# Altium footprint library PTN Connectors Footprint.PcbLib: 27 footprints (part 2 of 2)
Each footprint in its own frame and in the unit in brackets; x right, y up, seen from the top. Pads: shape width x height; smd on the part's side, far side on the other; paste and mask are expansions set on the pad; w line width, h text height; cw(c..) or ccw(c..) is an arc to the next point about the centre after c.
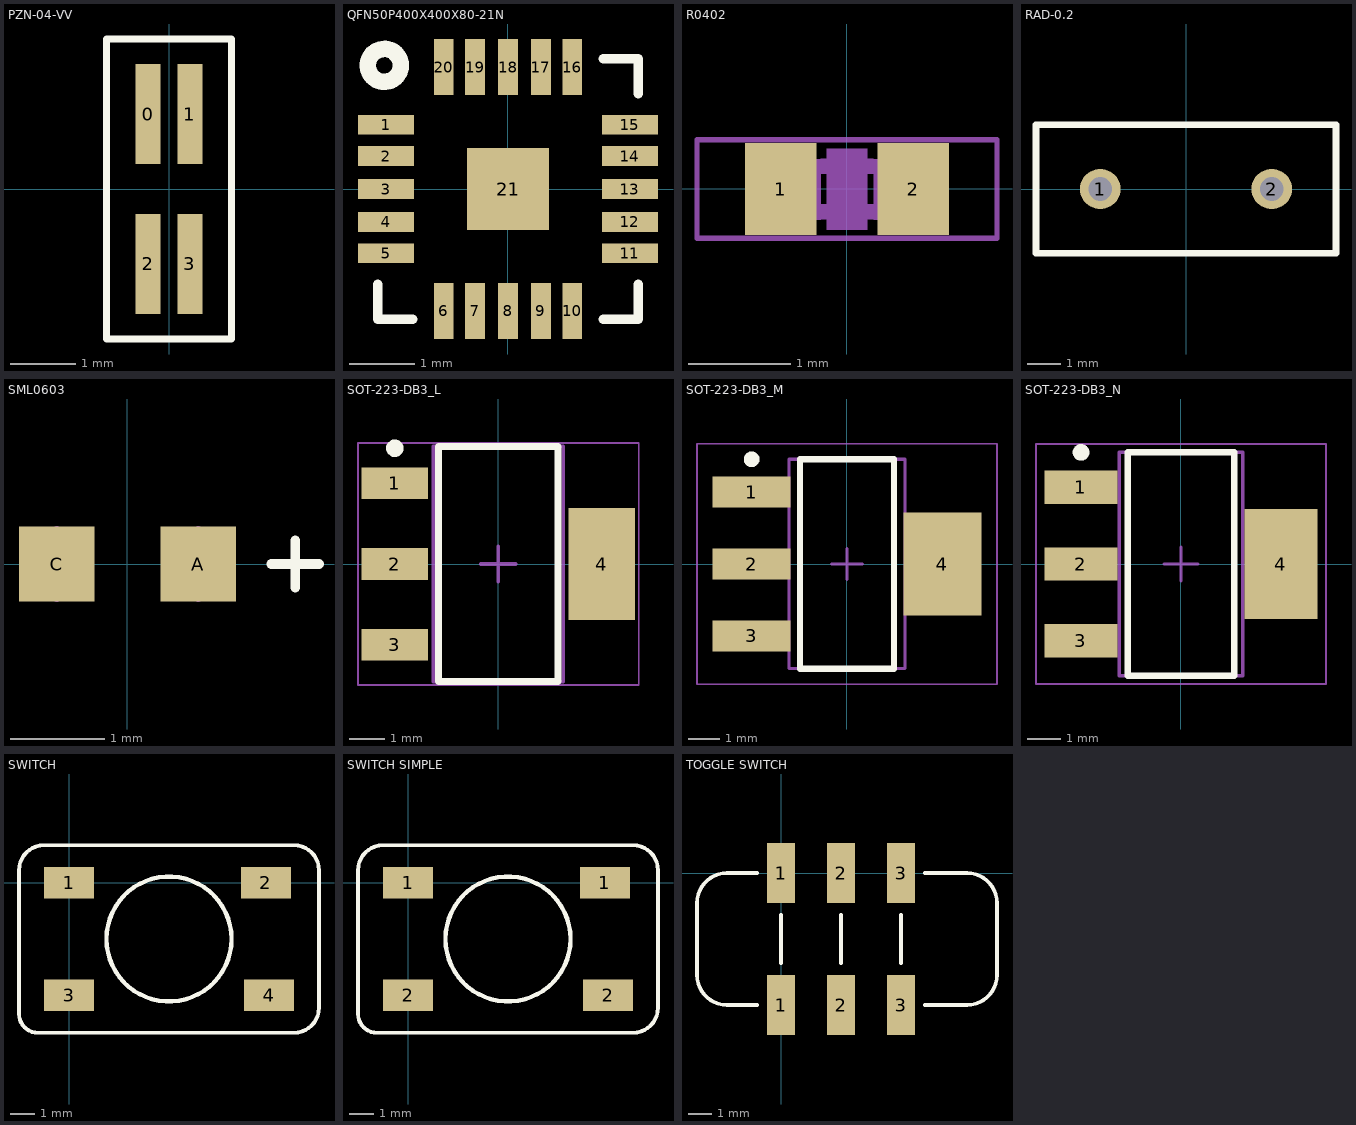
[diagram p1: the footprints below, top view; thin cyan lines are the x and y axes]

## PZN-04-VV [mil] "Omnetics Connector, PZN-04-VV - Imperial Units"
pads (4):
  rect 15x60 smd: 0(-12.5,45) 1(12.5,45) 2(-12.5,-45) 3(12.5,-45)
Top Overlay:
  lines w4: -37.5,-90 37.5,-90 37.5,90 -37.5,90 -37.5,-90

## QFN50P400X400X80-21N [mil]
pads (21):
  rect 34x12 smd mask+4: 1(-74,39) 2(-74,20) 3(-74,0) 4(-74,-20) 5(-74,-39) 11(74,-39) 12(74,-20) 13(74,0) 14(74,20) 15(74,39)
  rect 12x34 smd mask+4: 6(-39,-74) 7(-20,-74) 8(0,-74) 9(20,-74) 10(39,-74) 16(39,74) 17(20,74) 18(0,74) 19(-20,74) 20(-39,74)
  rect 50x50 smd: 21(0,0)
Top Overlay:
  circle w10: c-75,75 r10
  lines w6: -79,-58 -79,-79 -58,-79 ; 58,-79 79,-79 79,-58 ; 58,79 79,79 79,58

## R0402 [mm]
pads (2):
  rect 0.7x0.9 smd: 1(-0.65,0) 2(0.65,0)
Mechanical 6:
  rectangle: -0.201,-0.4 0.199,0.4
Mechanical 16:
  rectangle: -0.555,-0.305 -0.255,0.295
  rectangle: 0.258,-0.305 0.558,0.295
  lines w0.051: -1.473,-0.483 1.473,-0.483 1.473,0.483 -1.473,0.483 -1.473,-0.483
  lines w0.152: -0.245,-0.224 0.245,-0.224 ; -0.245,0.224 0.245,0.224

## RAD-0.2 [mm] "Radial Cap, Thru-Hole; 2 Leads; 0.2 in Pin Spacing"
pads (2):
  round 1.2 hole 0.7: 1(-2.54,0) 2(2.54,0)
Top Overlay:
  lines w0.2: -4.445,-1.905 -4.445,1.905 4.445,1.905 4.445,-1.905 -4.445,-1.905

## SML0603 [mil]
pads (2):
  rect 31.5x31.5 smd: A(29.53,0) C(-29.53,0)
Top Overlay:
  lines w4: 60,0 80,0 ; 70,-10 70,10
Mechanical 16:
  lines w4: -29.53,-13.78 -29.53,13.78 ; -17.72,-11.81 -17.72,11.81 ; 17.72,-11.81 17.72,11.81 ; 29.53,-13.78 29.53,13.78

## SOT-223-DB3_L [mm] "SOT223, 4-Leads, Body 6.5x3.5mm, Pitch 2.3mm, Lead Span 7mm, IPC High Density"
height 1.8
pads (4):
  rect 1.9x0.9 smd: 1(-2.95,2.3) 2(-2.95,0) 3(-2.95,-2.3)
  rect 1.9x3.2 smd: 4(2.95,0)
Top Overlay:
  circle w0.25: c-2.95,3.3 r0.125
  lines w0.2: -1.7,-3.35 -1.7,3.35 1.7,3.35 1.7,-3.35 -1.7,-3.35
Mechanical 13:
  lines w0.1: -1.85,-3.35 -1.85,3.35 1.85,3.35 1.85,-3.35 -1.85,-3.35
Mechanical 15:
  lines w0.05: -4,-3.45 -4,3.45 4,3.45 4,-3.45 -4,-3.45
  lines w0.1: -0.5,0 0.5,0 ; 0,-0.5 0,0.5
3D body: height 1.8, standoff 0.02, extent -1.85,-3.35 1.85,3.35

## SOT-223-DB3_M [mm] "SOT223, 4-Leads, Body 6.5x3.5mm, Pitch 2.3mm, Lead Span 7mm, IPC Low Density"
height 1.8
pads (4):
  rect 2.5x1 smd: 1(-3.05,2.3) 2(-3.05,0) 3(-3.05,-2.3)
  rect 2.5x3.3 smd: 4(3.05,0)
Top Overlay:
  circle w0.25: c-3.05,3.35 r0.125
  lines w0.2: -1.5,-3.35 -1.5,3.35 1.5,3.35 1.5,-3.35 -1.5,-3.35
Mechanical 13:
  lines w0.1: -1.85,-3.35 -1.85,3.35 1.85,3.35 1.85,-3.35 -1.85,-3.35
Mechanical 15:
  lines w0.05: -4.8,-3.85 -4.8,3.85 4.8,3.85 4.8,-3.85 -4.8,-3.85
  lines w0.1: -0.5,0 0.5,0 ; 0,-0.5 0,0.5
3D body: height 1.8, standoff 0.02, extent -1.85,-3.35 1.85,3.35

## SOT-223-DB3_N [mm] "SOT223, 4-Leads, Body 6.5x3.5mm, Pitch 2.3mm, Lead Span 7mm, IPC Medium Density"
height 1.8
pads (4):
  rect 2.2x1 smd: 1(-3,2.3) 2(-3,0) 3(-3,-2.3)
  rect 2.2x3.3 smd: 4(3,0)
Top Overlay:
  circle w0.25: c-3,3.35 r0.125
  lines w0.2: -1.6,-3.35 1.6,-3.35 1.6,3.35 -1.6,3.35 -1.6,-3.35
Mechanical 13:
  lines w0.1: -1.85,-3.35 1.85,-3.35 1.85,3.35 -1.85,3.35 -1.85,-3.35
Mechanical 15:
  lines w0.05: -4.35,-3.6 4.35,-3.6 4.35,3.6 -4.35,3.6 -4.35,-3.6
  lines w0.1: -0.5,0 0.5,0 ; 0,-0.5 0,0.5
3D body: height 1.8, standoff 0.02, extent -1.85,-3.35 1.85,3.35

## SWITCH [mil]
pads (4):
  rect 80x51 smd: 1(0,0) 2(315,0) 3(0,-180) 4(320,-180)
Top Overlay:
  circle w7: c160,-90 r100
  lines w6.3: -80,-210 ccw(c-50,-210) -50,-240 -20,-240 360,-240 ccw(c360,-200) 400,-200 400,-180 400,20 ccw(c360,20) 360,60 340,60 -40,60 ccw(c-40,20) -80,20 -80,-210

## SWITCH SIMPLE [mil]
pads (4):
  rect 80x51 smd: 1(0,0) 1(315,0) 2(0,-180) 2(320,-180)
Top Overlay:
  circle w7: c160,-90 r100
  lines w6.3: -80,-210 ccw(c-50,-210) -50,-240 -20,-240 360,-240 ccw(c360,-200) 400,-200 400,-180 400,20 ccw(c360,20) 360,60 340,60 -40,60 ccw(c-40,20) -80,20 -80,-210

## TOGGLE SWITCH [mil]
pads (6):
  rect 47x100 smd: 1(0,-220) 1(0,0) 2(100,-220) 2(100,0) 3(200,0)
  rect 47x100 smd mask+4: 3(200,-220)
Top Overlay:
  lines w6.3: -40,-220 -90,-220 cw(c-90,-170) -140,-170 -140,-50 cw(c-90,-50) -90,0 -40,0 ; 0,-150 0,-70 ; 100,-150 100,-70 ; 200,-150 200,-70 ; 240,-220 290,-220 310,-220 ccw(c310,-170) 360,-170 360,-140 360,-60 360,-50 ccw(c310,-50) 310,0 240,0